# Altium schematic symbol library 2019-05-14_07-55-18.SchLib: 2 symbols
Pins are listed as number, name and electrical type; pins without a type are passive.

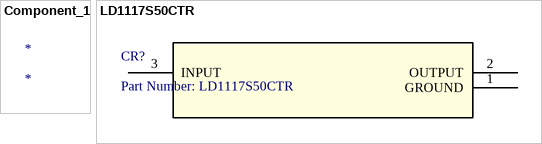
[diagram p0: symbols Component_1 to LD1117S50CTR]

## Component_1
designator *

## LD1117S50CTR
designator CR?, comment Part Number: LD1117S50CTR
No Description Available; Vendor: STMicroelectronics; Built_By: EMA_UL_Team; Type: DEV; Manufacturer_Part_Number: LD1117S50CTR; Copyright: Copyright (C) 2018 Accelerated Designs. All rights reserved; RefDes: RefDes; Value: Value
footprint SOT-223
pins: 1 GROUND, 2 OUTPUT, 3 INPUT